# EAGLE library part 1X08 (library connectors)
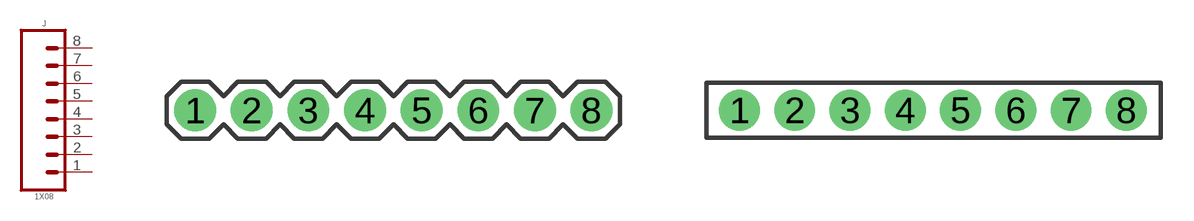
[diagram p2: symbol with the pads of 1X08-VERT-MALE; footprints 1X08-VERT-MALE, 1X08-VERT-FEMALE]

Designator prefix J

## 1X08VERT-MALE (CREATOR: MrSwirlyEyes; DATASHEET: http://www.sullinscorp.com/catalogs/77_PAGE108-109_.100_MALE_HDR.pdf; DIST: Digikey; DISTLINK: https://www.digikey.com/products/en?keywords=PEC08SAAN; DISTPN: S1012E-08-ND; MFR: Sullins Connector Solutions; MPN: PEC08SAAN; TESTED: NO; VALUE: 1x08-VERT-MALE)  [1X08-VERT-MALE]
1  1  pas
2  2  pas
3  3  pas
4  4  pas
5  5  pas
6  6  pas
7  7  pas
8  8  pas

## 1X08VERT-FEMALE (CREATOR: Kenmei; DATASHEET: http://sullinscorp.com/catalogs/101_PAGE114-115_.100_FEMALE_HDR.pdf; DIST: Digikey; DISTLINK: https://www.digikey.com/products/en?mpart=PPTC081LFBN-RC&v=35; DISTPN: S7006-ND; MFR: Sullins Connector Solutions; MPN: PPTC081LFBN-RC; TESTED: NO; VALUE: 1x08-VERT-FEMALE)  [1X08-VERT-FEMALE]
Pads as for 1X08-VERT-MALE

## Footprint 1X08-VERT-MALE (pad centres in mm)
drill 1.016 pad 1.88: 1 -8.89,0; 2 -6.35,0; 3 -3.81,0; 4 -1.27,0; 5 1.27,0; 6 3.81,0; 7 6.35,0; 8 8.89,0

## Footprint 1X08-VERT-FEMALE (pad centres in mm)
drill 1.016 pad 1.88: 1 -8.89,0; 2 -6.35,0; 3 -3.81,0; 4 -1.27,0; 5 1.27,0; 6 3.81,0; 7 6.35,0; 8 8.89,0